# EAGLE library part EAGLE-FPC_CONNECTOR_AND_FFC_CAB-REV16B_68611514122 (library Blueberry Pi)
WR-FPC 1.00mm SMT ZIF Horizontal Top Contact, 15 Pins=>Code : Con_FPC_ZIF_1.00_68611514122 <http://katalog.we-online.de/media/images/eican/Con_FPC_ZIF_1.00_6861xx14122_pf2.jpg> Details see: http://katalog.we-online.de/en/em/686_1xx_141_22 Created 2014-07-09, Karrer Zheng 2014 (C) Würth Elektronik
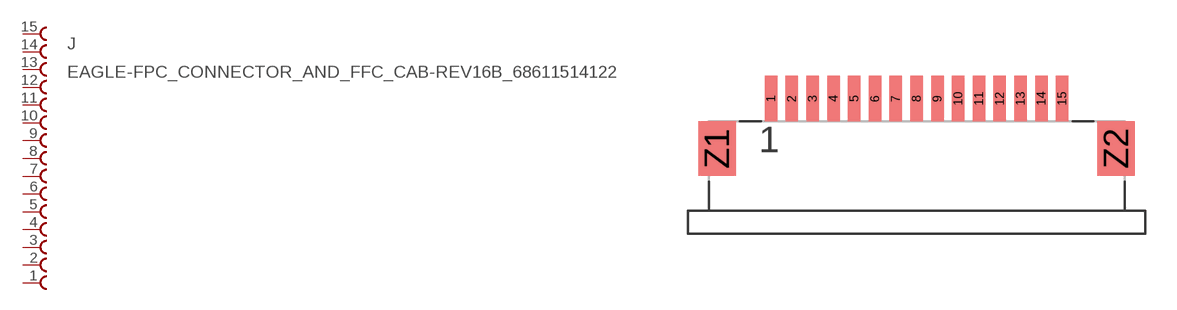
[diagram p2: symbol with the pads of EAGLE-FPC_CONNECTOR_AND_FFC_CAB-REV16B_68611514122; footprint EAGLE-FPC_CONNECTOR_AND_FFC_CAB-REV16B_68611514122]

Designator prefix J

## EAGLE-FPC_CONNECTOR_AND_FFC_CAB-REV16B_68611514122  [EAGLE-FPC_CONNECTOR_AND_FFC_CAB-REV16B_68611514122]
1  15  pas
2  14  pas
3  13  pas
4  12  pas
5  11  pas
6  10  pas
7  9  pas
8  8  pas
9  7  pas
10  6  pas
11  5  pas
12  4  pas
13  3  pas
14  2  pas
15  1  pas

## Footprint EAGLE-FPC_CONNECTOR_AND_FFC_CAB-REV16B_68611514122 (pad centres in mm)
WR-FPC 1.00mm SMT ZIF Horizontal Top Contact, 15 Pins
smd 0.6 x 2.2: 1 -7,2.4; 2 -6,2.4; 3 -5,2.4; 4 -4,2.4; 5 -3,2.4; 6 -2,2.4; 7 -1,2.4; 8 0,2.4; 9 1,2.4; 10 2,2.4; 11 3,2.4; 12 4,2.4; 13 5,2.4; 14 6,2.4; 15 7,2.4
smd 1.8 x 2.6: Z1 -9.6,0; Z2 9.6,0